# EAGLE library part SSW-106-02-TM-S-RA (library SSW-130-01-G-S)
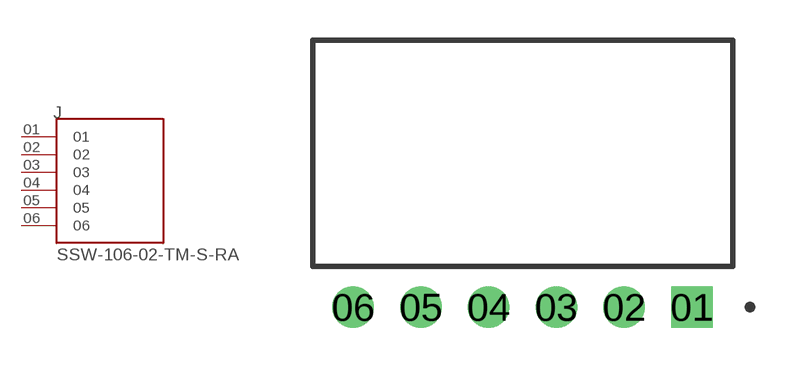
[diagram p8: symbol with the pads of SAMTEC_SSW-106-02-TM-S-RA; footprint SAMTEC_SSW-106-02-TM-S-RA]

Designator prefix J

## SSW-106-02-TM-S-RA (MANUFACTURER: Samtec; PARTREV: R; STANDARD: Manufacturer Recommendations)  [SAMTEC_SSW-106-02-TM-S-RA]
01  01  pas
02  02  pas
03  03  pas
04  04  pas
05  05  pas
06  06  pas

## Footprint SAMTEC_SSW-106-02-TM-S-RA (pad centres in mm)
drill 1.04 pad 1.39 square: 01 0,0
drill 1.04 pad 1.39: 02 -2.54,0; 03 -5.08,0; 04 -7.62,0; 05 -10.16,0; 06 -12.7,0